# Altium schematic symbol library TI-E10-2x10-500-FL.SchLib: 1 symbol
Pins are listed as number, name and electrical type; pins without a type are passive.

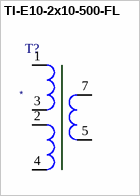
[diagram p0: symbol TI-E10-2x10-500-FL]

## TI-E10-2x10-500-FL
designator T?
ID: *; PRICE: *; BUY_LINK: *; PDF: *
footprint EE10
pins: 1, 2, 3, 4, 5, 7